# EAGLE library part SI5332BD08940-GM1 (library SI5332BD08940-GM1)
Clock Generators & Support Products Low jitter, 6-output, any-frequency (< 200 MHz), any output clock generator (INT+FRAC) Source: Datasheet <https://www.mouser.in/datasheet/2/472/si5332_datasheet-2507478.pdf>
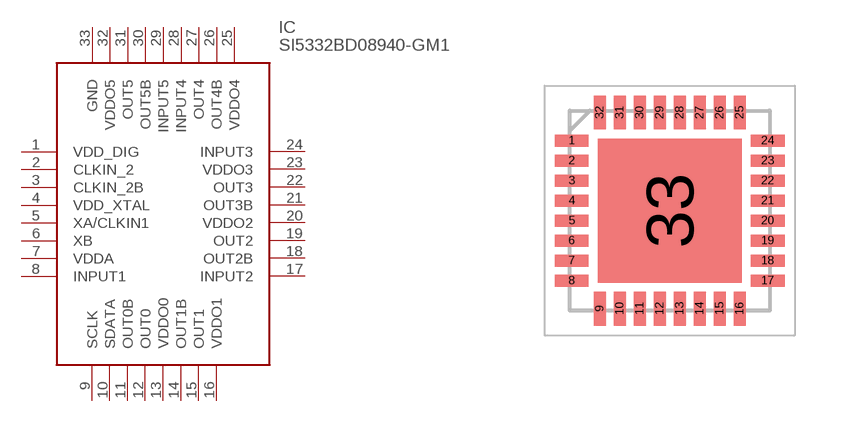
[diagram p0: symbol with the pads of QFN50P500X500X90-33N; footprint QFN50P500X500X90-33N]

Designator prefix IC

## SI5332BD08940-GM1 (Description: Clock Generators & Support Products Low jitter, 6-output, any-frequency (< 200 MHz), any output clock generator (INT+FRAC); Height: 0.9mm; Manufacturer_Name: Skyworks; Manufacturer_Part_Number: SI5332BD08940-GM1)  [QFN50P500X500X90-33N]
1  VDD_DIG
2  CLKIN_2
3  CLKIN_2B
4  VDD_XTAL
5  XA/CLKIN1
6  XB
7  VDDA
8  INPUT1
9  SCLK
10  SDATA
11  OUT0B
12  OUT0
13  VDDO0
14  OUT1B
15  OUT1
16  VDDO1
17  INPUT2
18  OUT2B
19  OUT2
20  VDDO2
21  OUT3B
22  OUT3
23  VDDO3
24  INPUT3
25  VDDO4
26  OUT4B
27  OUT4
28  INPUT4
29  INPUT5
30  OUT5B
31  OUT5
32  VDDO5
33  GND

## Footprint QFN50P500X500X90-33N (pad centres in mm)
32- PIN QFN 5mm x 5 mm
smd 0.85 x 0.3: 1 -2.45,1.75; 2 -2.45,1.25; 3 -2.45,0.75; 4 -2.45,0.25; 5 -2.45,-0.25; 6 -2.45,-0.75; 7 -2.45,-1.25; 8 -2.45,-1.75; 17 2.45,-1.75; 18 2.45,-1.25; 19 2.45,-0.75; 20 2.45,-0.25; 21 2.45,0.25; 22 2.45,0.75; 23 2.45,1.25; 24 2.45,1.75
smd 0.3 x 0.85: 9 -1.75,-2.45; 10 -1.25,-2.45; 11 -0.75,-2.45; 12 -0.25,-2.45; 13 0.25,-2.45; 14 0.75,-2.45; 15 1.25,-2.45; 16 1.75,-2.45; 25 1.75,2.45; 26 1.25,2.45; 27 0.75,2.45; 28 0.25,2.45; 29 -0.25,2.45; 30 -0.75,2.45; 31 -1.25,2.45; 32 -1.75,2.45
smd 3.6 x 3.6: 33 0,0